# EAGLE library part PSM-210223-10 (library taki-library)
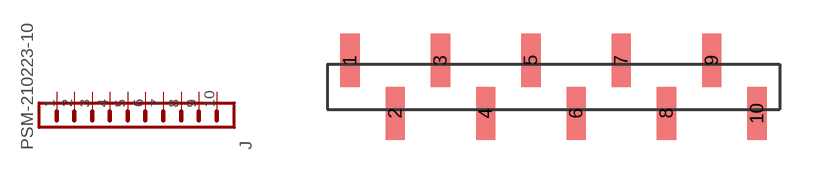
[diagram p36: symbol with the pads of PSM-210223-10; footprint PSM-210223-10]

Designator prefix J

## PSM-210223-10  [PSM-210223-10]
1  1
2  2
3  3
4  4
5  5
6  6
7  7
8  8
9  9
10  10

## Footprint PSM-210223-10 (pad centres in mm)
smd 0.85 x 2.35: 1 0,1.175; 2 2,-1.175; 3 4,1.175; 4 6,-1.175; 5 8,1.175; 6 10,-1.175; 7 12,1.175; 8 14,-1.175; 9 16,1.175; 10 18,-1.175